# EAGLE library part TDA7372B (library Audio-Power-amlifier)
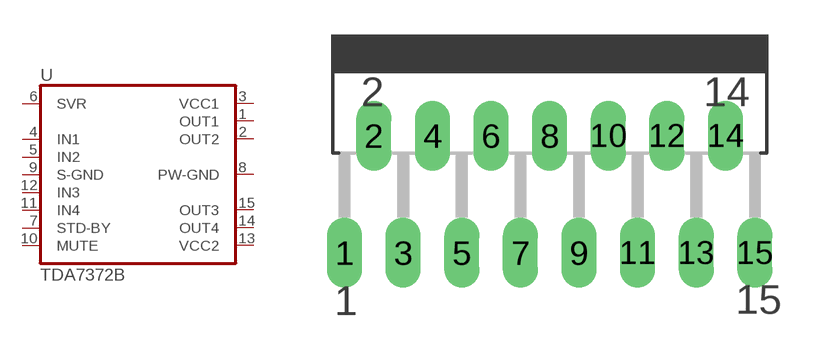
[diagram p29: symbol with the pads of MULTIWATT-15V; footprint MULTIWATT-15V]

Designator prefix -

## TDA7372B  [MULTIWATT-15V]
1  OUT1  out
2  OUT2  out
3  VCC1  pwr
4  IN1  in
5  IN2  in
6  SVR  pas
7  STD-BY  in
8  PW-GND  pwr
9  S-GND  in
10  MUTE  in
11  IN4  in
12  IN3  in
13  VCC2  pwr
14  OUT4  out
15  OUT3  out

## Footprint MULTIWATT-15V (pad centres in mm)
Multiwatt 15 vertical
drill 1.016 long: 1 -8.89,-7.62; 2 -7.62,-2.54; 3 -6.35,-7.62; 4 -5.08,-2.54; 5 -3.81,-7.62; 6 -2.54,-2.54; 7 -1.27,-7.62; 8 0,-2.54; 9 1.27,-7.62; 10 2.54,-2.54; 11 3.81,-7.62; 12 5.08,-2.54; 13 6.35,-7.62; 14 7.62,-2.54; 15 8.89,-7.62